# Altium footprint library PcbCorrect(25_12_2025).PcbLib: 27 footprints (part 1 of 2)
Each footprint in its own frame and in the unit in brackets; x right, y up, seen from the top. Pads: shape width x height; smd on the part's side, far side on the other; paste and mask are expansions set on the pad; w line width, h text height; cw(c..) or ccw(c..) is an arc to the next point about the centre after c.
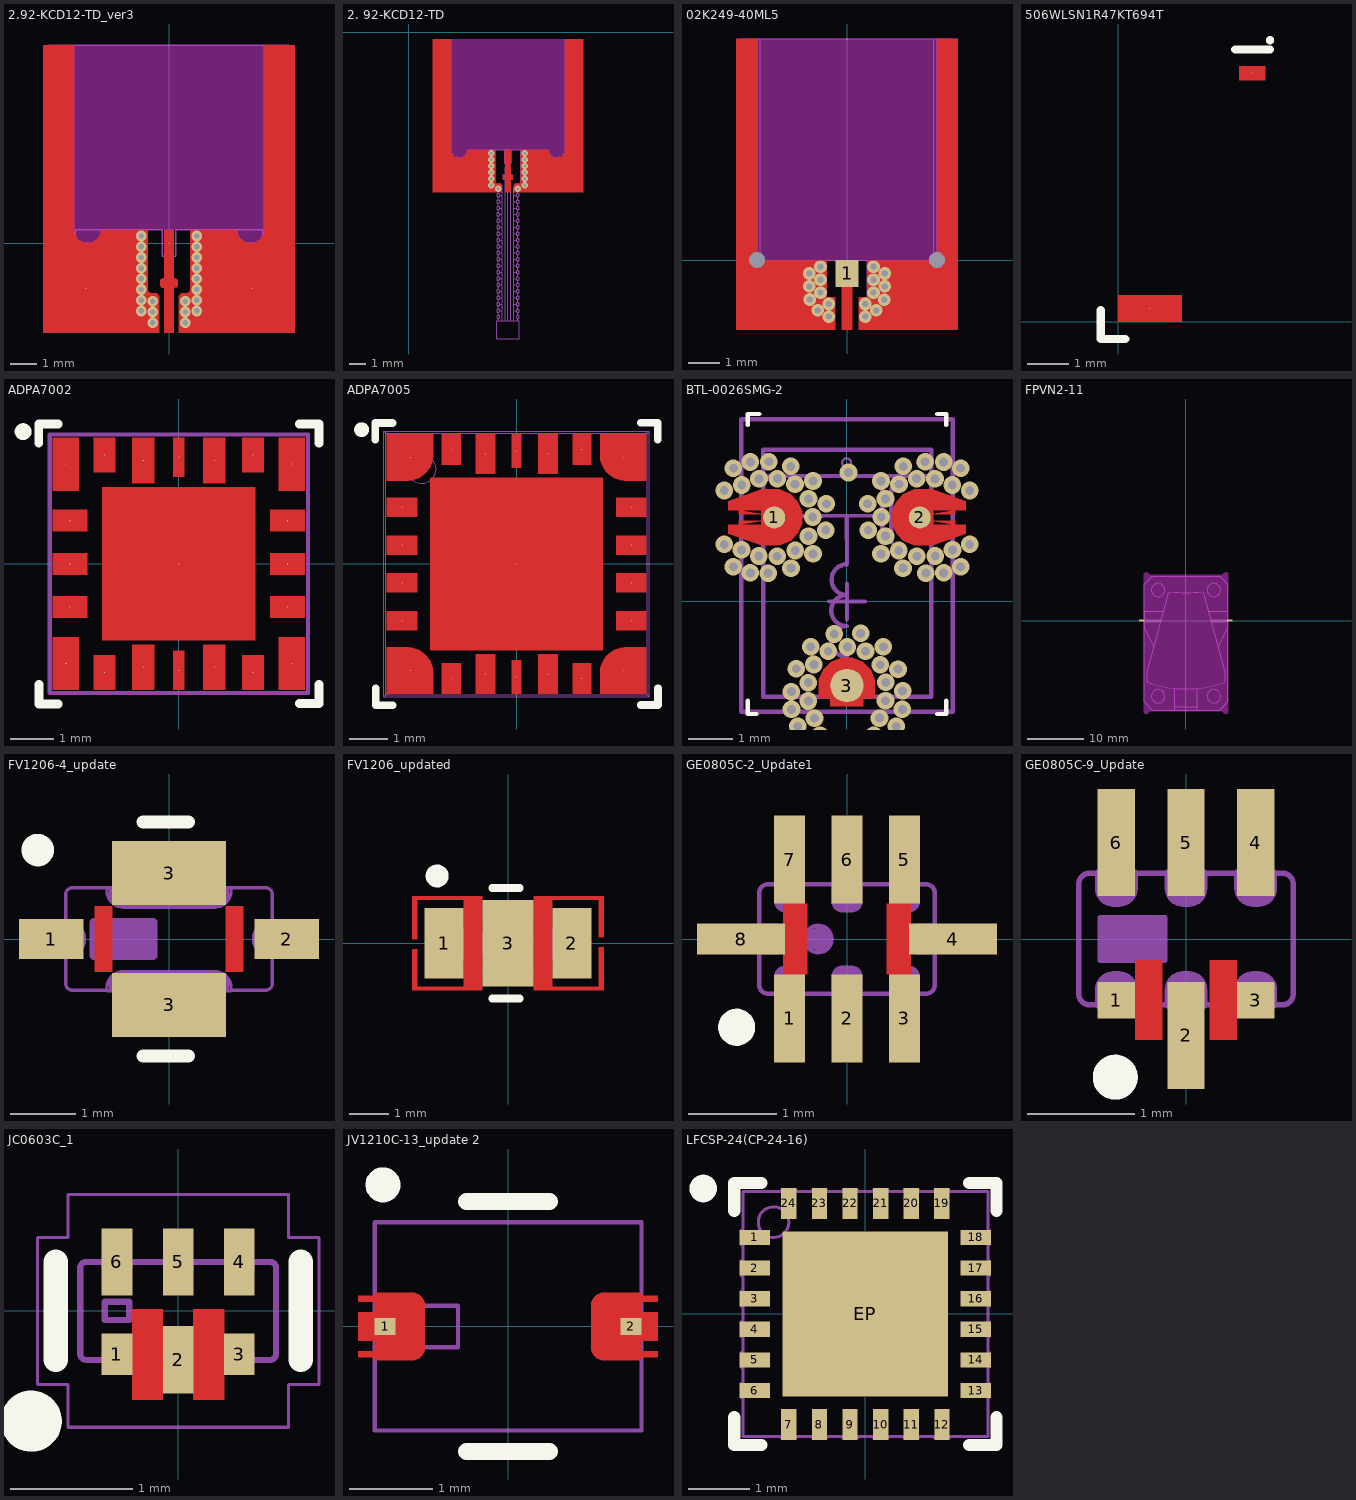
[diagram p0: the footprints below, top view; thin cyan lines are the x and y axes]

## 2.92-KCD12-TD_ver3 [mil]
pads (3):
  round 1 smd mask-196.85: 1(0,0) 2(-122.05,-66.93) 2(122.05,-66.93)
via -40.94,10.44 diameter 15.75 hole 7.87
via -40.94,-5.31 diameter 15.75 hole 7.87
via -40.94,-21.06 diameter 15.75 hole 7.87
via -40.94,-36.81 diameter 15.75 hole 7.87
via -40.94,-52.55 diameter 15.75 hole 7.87
via -40.94,-68.3 diameter 15.75 hole 7.87
via -40.94,-84.05 diameter 15.75 hole 7.87
via -40.94,-99.8 diameter 15.75 hole 7.87
via -24.02,-85.62 diameter 15.75 hole 7.87
via -24.02,-101.37 diameter 15.75 hole 7.87
via -24.02,-117.12 diameter 15.75 hole 7.87
via 24.02,-117.12 diameter 15.75 hole 7.87
via 24.02,-101.37 diameter 15.75 hole 7.87
via 24.02,-85.62 diameter 15.75 hole 7.87
via 40.94,-99.8 diameter 15.75 hole 7.87
via 40.94,-84.05 diameter 15.75 hole 7.87
via 40.94,-68.3 diameter 15.75 hole 7.87
via 40.95,-52.55 diameter 15.75 hole 7.87
via 40.94,-36.81 diameter 15.75 hole 7.87
via 40.94,-21.06 diameter 15.75 hole 7.87
via 40.94,-5.31 diameter 15.75 hole 7.87
via 40.94,10.44 diameter 15.75 hole 7.87
Top Layer:
  region: -6.69,-65.94 -8.74,-65.94 -9.5,-65.95 -10.9,-65.36 -11.98,-64.29 -12.56,-62.89 -12.56,-62.13 -12.56,-55.59 -12.56,-54.83 -11.98,-53.43 -10.9,-52.35 -9.5,-51.77 -8.74,-51.77 -6.69,-51.77 -6.69,-19.89 6.69,-19.89 6.69,-51.77 8.74,-51.77 9.5,-51.77 10.9,-52.35 11.98,-53.43 12.56,-54.83 12.56,-55.59 12.56,-62.13 12.56,-62.89 11.98,-64.29 10.9,-65.36 9.5,-65.94 8.74,-65.94 6.69,-65.94 6.69,-132.09 -6.69,-132.09
  region: -6.69,-19.89 6.69,-19.89 6.69,19.89 -6.69,19.89
  region: -185.04,-132.09 -185.04,291.54 -139.76,291.54 -139.76,19.89 -139.67,17.96 -138.92,14.18 -137.44,10.61 -135.3,7.4 -132.57,4.67 -129.36,2.53 -125.8,1.05 -122.01,0.3 -118.15,0.3 -114.37,1.05 -110.8,2.53 -107.6,4.67 -104.87,7.4 -102.72,10.61 -101.25,14.17 -100.49,17.96 -100.4,19.89 -100.39,19.89 -31.5,19.89 -31.5,-67.12 -31.46,-67.78 -31.21,-69.06 -30.71,-70.27 -29.98,-71.37 -29.05,-72.29 -27.96,-73.02 -26.75,-73.52 -25.46,-73.78 -24.8,-73.81 -19.68,-73.81 -19.18,-73.81 -18.19,-74.01 -17.26,-74.4 -16.42,-74.96 -15.71,-75.67 -15.15,-76.51 -14.77,-77.44 -14.57,-78.43 -14.57,-78.93 -14.57,-132.09
  region: 185.04,-132.09 185.04,291.54 139.76,291.54 139.76,19.89 139.67,17.96 138.92,14.18 137.44,10.61 135.3,7.4 132.57,4.67 129.36,2.53 125.8,1.05 122.01,0.3 118.15,0.3 114.37,1.05 110.8,2.53 107.6,4.67 104.87,7.4 102.72,10.61 101.25,14.17 100.49,17.96 100.4,19.89 100.39,19.89 31.5,19.89 31.5,-67.12 31.46,-67.78 31.21,-69.06 30.71,-70.27 29.98,-71.37 29.05,-72.29 27.96,-73.02 26.75,-73.52 25.46,-73.78 24.8,-73.81 19.68,-73.81 19.18,-73.81 18.19,-74.01 17.26,-74.4 16.42,-74.96 15.71,-75.67 15.15,-76.51 14.77,-77.44 14.57,-78.43 14.57,-78.93 14.57,-132.09
Top Solder:
  pour cut-out: 26.38,-27.37 26.38,-35.24 -26.77,-35.24 -26.77,-27.37
  pour cut-out: 209.05,-90.76 105.91,-90.76 105.91,19.87 94.09,19.87 94.09,-102.57 220.87,-102.57 220.87,291.53 209.05,291.53
  pour cut-out: -209.05,-90.76 -105.91,-90.76 -105.91,19.87 -94.09,19.87 -94.09,-102.57 -220.87,-102.57 -220.87,291.53 -209.05,291.53
Bottom Solder:
  pour cut-out: -177.56,291.54 -165.75,291.54 -165.75,-15.75 0,-15.75 0,-27.56 -177.56,-27.56 -177.56,-4.14
  pour cut-out: 177.56,291.54 165.75,291.54 165.75,-15.75 0,-15.75 0,-27.56 177.56,-27.56 177.56,-4.14
Keep-Out Layer:
  board cut-out: -139.76,19.89 -139.76,15.97 -136.77,8.74 -131.23,3.2 -123.99,0.2 -116.16,0.2 -108.93,3.2 -103.39,8.74 -100.39,15.97 -100.39,19.89 100.39,19.89 100.39,15.97 103.39,8.74 108.93,3.2 116.16,0.2 123.99,0.21 131.23,3.2 136.77,8.74 139.76,15.97 139.76,19.89 139.76,291.54 -139.76,291.54
Top Assembly:
  lines w1.97: -177.17,-58.85 -137.8,-58.85 -137.8,19.89 -9.84,19.89 -9.84,-19.48 9.84,-19.48 9.84,19.89 137.8,19.89 137.8,-58.85 177.17,-58.85 177.17,291.54 -177.17,291.54 -177.17,-58.85
3D body "Соединитель 2.92-KCD12-TD.STEP": height 153.54, standoff -122.05, extent -177.15,-58.85 177.17,527.76

## 2. 92-KCD12-TD [mm]
pads (1):
  round 0.025 smd: 1(6.2,-7.75)
via 7.24,-9.55 diameter 0.4 hole 0.2
via 7.24,-9.15 diameter 0.4 hole 0.2
via 7.24,-8.75 diameter 0.4 hole 0.2
via 7.24,-8.35 diameter 0.4 hole 0.2
via 7.24,-7.95 diameter 0.4 hole 0.2
via 7.24,-7.55 diameter 0.4 hole 0.2
via 5.59,-9.775 diameter 0.4 hole 0.2
via 6.81,-9.775 diameter 0.4 hole 0.2
via 5.16,-9.55 diameter 0.4 hole 0.2
via 5.16,-9.15 diameter 0.4 hole 0.2
via 5.16,-8.75 diameter 0.4 hole 0.2
via 5.16,-8.35 diameter 0.4 hole 0.2
via 5.16,-7.95 diameter 0.4 hole 0.2
via 5.16,-7.55 diameter 0.4 hole 0.2
Top Layer:
  region: 1.5,-10 1.5,-0.425 2.65,-0.425 2.65,-7.325 2.651,-7.353 2.657,-7.409 2.67,-7.463 2.688,-7.516 2.712,-7.567 2.742,-7.614 2.777,-7.658 2.817,-7.698 2.861,-7.733 2.908,-7.763 2.959,-7.787 3.012,-7.805 3.066,-7.818 3.122,-7.824 3.178,-7.824 3.234,-7.818 3.288,-7.805 3.341,-7.787 3.392,-7.763 3.439,-7.733 3.483,-7.698 3.523,-7.658 3.558,-7.614 3.588,-7.567 3.612,-7.516 3.63,-7.463 3.643,-7.409 3.649,-7.353 3.65,-7.325 5.4,-7.325 5.4,-9.445 5.635,-9.445 5.654,-9.445 5.69,-9.452 5.725,-9.467 5.756,-9.487 5.783,-9.514 5.803,-9.545 5.818,-9.58 5.825,-9.616 5.825,-9.635 5.825,-10
  region: 10.9,-10 10.9,-0.425 9.75,-0.425 9.75,-7.325 9.749,-7.353 9.743,-7.409 9.73,-7.463 9.712,-7.516 9.688,-7.567 9.658,-7.614 9.623,-7.658 9.583,-7.698 9.539,-7.733 9.492,-7.763 9.441,-7.787 9.388,-7.805 9.334,-7.818 9.278,-7.824 9.222,-7.824 9.166,-7.818 9.112,-7.805 9.059,-7.787 9.008,-7.763 8.961,-7.733 8.917,-7.698 8.877,-7.658 8.842,-7.614 8.812,-7.567 8.788,-7.516 8.77,-7.463 8.757,-7.409 8.751,-7.353 8.75,-7.325 7,-7.325 7,-9.445 6.765,-9.445 6.746,-9.445 6.71,-9.452 6.675,-9.467 6.644,-9.487 6.617,-9.514 6.597,-9.545 6.582,-9.58 6.575,-9.616 6.575,-9.635 6.575,-10
  region: 6.335,-8.43 6.335,-8.102 6.065,-8.102 6.065,-8.43 6.035,-8.43 6.035,-8.89 5.895,-8.89 5.895,-9.163 6.03,-9.163 6.03,-10 6.37,-10 6.37,-9.163 6.505,-9.163 6.505,-8.89 6.365,-8.89 6.365,-8.43
  region: 6.4,-8.175 6.4,-7.325 6,-7.325 6,-8.175
Top Solder:
  region: 5.8,-8.675 5.8,-8.475 6.6,-8.475 6.6,-8.675
  region: 1.2,-9.825 1.2,-0.425 1.5,-0.425 1.5,-9.525 10.9,-9.525 10.9,-0.425 11.2,-0.425 11.2,-9.825
Keep-Out Layer:
  board cut-out: 2.65,-7.325 2.65,-7.424 2.726,-7.608 2.867,-7.749 3.051,-7.825 3.249,-7.825 3.433,-7.749 3.574,-7.608 3.65,-7.424 3.65,-7.325 8.75,-7.325 8.75,-7.424 8.826,-7.608 8.967,-7.749 9.151,-7.825 9.349,-7.825 9.533,-7.749 9.674,-7.608 9.75,-7.424 9.75,-7.325 9.75,-0.425 2.65,-0.425
Mechanical 6:
  drawing of 608 lines, arcs and shapes, not listed
3D body "Соединитель 2.92-KCD12-TD.STEP": height 3.9, standoff -3.1, extent 1.7,-9.325 10.7,5.575

## 02K249-40ML5 [mm]
pads (3):
  rect 0.73x0.85 smd paste-5 mask-5: 1(0,-0.425)
  round 0 hole 0.5 paste-2539.97 mask+0.102: 2(-2.85,0) 2(2.85,0)
via -1.18,-1.25 diameter 0.4 hole 0.2
via 1.18,-1.26 diameter 0.4 hole 0.2
via 0.93,-1.595 diameter 0.4 hole 0.2
via 1.2,-0.835 diameter 0.4 hole 0.2
via 1.2,-0.425 diameter 0.4 hole 0.2
via -0.93,-1.595 diameter 0.4 hole 0.2
via -1.2,-0.835 diameter 0.4 hole 0.2
via -1.2,-0.425 diameter 0.4 hole 0.2
via 0.84,-1.03 diameter 0.4 hole 0.2
via 0.58,-1.39 diameter 0.4 hole 0.2
via 0.84,-0.62 diameter 0.4 hole 0.2
via 0.58,-1.79 diameter 0.4 hole 0.2
via 0.84,-0.21 diameter 0.4 hole 0.2
via -0.84,-1.03 diameter 0.4 hole 0.2
via -0.58,-1.39 diameter 0.4 hole 0.2
via -0.84,-0.62 diameter 0.4 hole 0.2
via -0.58,-1.79 diameter 0.4 hole 0.2
via -0.84,-0.21 diameter 0.4 hole 0.2
Top Layer:
  region: 0,-1.34 0.17,-1.34 0.17,-2.2 0,-2.2
  region: 0,-1.34 -0.17,-1.34 -0.17,-2.2 0,-2.2
  region: -0.37,-1.175 -3.5,-1.175 -3.5,-2.2 -0.37,-2.2
  region: -0.64,-1.175 -0.64,0 -2.85,0 -2.85,7 -3.5,7 -3.5,-1.175
  region: 0,0 0.17,0 0.17,-1.34 0,-1.34
  region: 0,0 -0.17,0 -0.17,-1.34 0,-1.34
  region: 0.64,-1.175 0.64,0 2.85,0 2.85,7 3.5,7 3.5,-1.175
  region: 0.37,-1.175 3.5,-1.175 3.5,-2.2 0.37,-2.2
Bottom Layer:
  region: 0.64,-1.175 0.64,0 2.85,0 2.85,7 3.5,7 3.5,-1.175
  region: -0.64,-1.175 -0.64,0 -2.85,0 -2.85,7 -3.5,7 -3.5,-1.175
Top Solder:
  region: -0.4,-1 0.4,-1 0.5,-1 0.5,-1.2 -0.5,-1.2 -0.5,-1
  region: -3.8,7 -3.8,-2.5 3.8,-2.5 3.8,7 3.5,7 3.5,-2.2 -3.5,-2.2 -3.5,7
Keep-Out Layer:
  board cut-out: -2.85,7 -2.85,0 2.85,0 2.85,7
Top Assembly:
  lines w0.03: -0.25,0 -0.25,-0.8 0,-0.8 0.25,-0.8 0.25,0 ; -3.3,0 -3.3,7 -2.75,7 ; -3.3,0 -0.64,0 -0.64,-2 -3.3,-2 -3.3,0 ; -2.75,7 2.75,7 ; -2.75,7 -2.75,0 -0.2,0 0,0 0.2,0 2.75,0 2.75,7 ; 2.75,7 3.3,7 3.3,0 ; 3.3,0 0.64,0 0.64,-2 3.3,-2 3.3,0

## 506WLSN1R47KT694T [mil] "High Frequency Ultra-Broadband Inductor"
pads (2):
  round 1 smd mask+1.97: 1(128.48,238.01)
  round 1 smd mask+3.94: 2(30.49,12.5)
Top Layer:
  region: 0,0 60.98,0 60.98,25 0,25
  region: 115.98,231.32 140.98,231.32 140.98,244.7 115.98,244.7
Top Overlay:
  circle w5.51: c145.67,269.69 r1.18
  lines w7.87: -16.73,10.83 -16.73,-16.73 6.89,-16.73 ; 112.2,260.83 145.67,260.83
3D body "Катушка ATC506WLSN1R47KT694T.STEP": height 118.11, standoff -1.29, extent 0,0 129.92,247.24

## ADPA7002 [mil]
pads (21):
  round 1 smd: 1(-99.41,39.37) 2(-99.41,0) 3(-99.41,-39.37) 4(-67.91,-99.41) 5(-32.48,-94.49) 6(0,-97.44) 7(32.48,-94.49) 8(67.91,-99.41) 9(99.41,-39.37) 10(99.41,0) 11(99.41,39.37) 12(67.91,99.41) 13(32.48,94.49) 14(0,97.44) 15(-32.48,94.49) 16(-67.91,99.41) EP(-103.35,-91.04) EP(-103.35,91.04) EP(0,0) EP(103.35,-91.04) EP(103.35,91.04)
Top Layer:
  region: -91.54,115.16 -91.54,66.93 -115.16,66.93 -115.16,115.16
  region: -91.54,-115.16 -91.54,-66.93 -115.16,-66.93 -115.16,-115.16
  region: 91.54,115.16 91.54,66.93 115.16,66.93 115.16,115.16
  region: 91.54,-115.16 91.54,-66.93 115.16,-66.93 115.16,-115.16
  region: -58.07,-115.16 -77.76,-115.16 -77.76,-83.66 -58.07,-83.66
  region: 58.07,-115.16 77.76,-115.16 77.76,-83.66 58.07,-83.66
  region: -4.92,-115.16 4.92,-115.16 4.92,-79.72 -4.92,-79.72
  region: 58.07,115.16 77.76,115.16 77.76,83.66 58.07,83.66
  region: -58.07,115.16 -77.76,115.16 -77.76,83.66 -58.07,83.66
  region: 115.16,49.21 115.16,29.53 83.66,29.53 83.66,49.21
  region: 115.16,9.84 115.16,-9.84 83.66,-9.84 83.66,9.84
  region: 115.16,-29.53 115.16,-49.21 83.66,-49.21 83.66,-29.53
  region: -115.16,-49.21 -115.16,-29.53 -83.66,-29.53 -83.66,-49.21
  region: -115.16,-9.84 -115.16,9.84 -83.66,9.84 -83.66,-9.84
  region: -115.16,29.53 -115.16,49.21 -83.66,49.21 -83.66,29.53
  region: -69.88,-69.88 -69.88,69.88 69.88,69.88 69.88,-69.88
  region: 4.92,115.16 -4.92,115.16 -4.92,79.72 4.92,79.72
  region: -42.52,-115.16 -42.52,-73.82 -22.44,-73.82 -22.44,-115.16
  region: 42.52,-115.16 42.52,-73.82 22.44,-73.82 22.44,-115.16
  region: 42.52,115.16 42.52,73.82 22.44,73.82 22.44,115.16
  region: -42.52,115.16 -42.52,73.82 -22.44,73.82 -22.44,115.16
Top Overlay:
  circle w7.87: c-142.35,120.8 r3.74
  lines w7.87: -128.15,110.23 -128.15,127.76 -110.23,127.76 ; -127.76,-110.23 -127.76,-128.15 -110.23,-128.15 ; 110.23,-127.76 128.15,-127.76 128.15,-110.23 ; 110.23,127.76 128.15,127.76 128.15,110.23
Top Assembly:
  lines w3.94: -118.11,-118.11 -118.11,118.11 118.11,118.11 118.11,-118.11 -118.11,-118.11

## ADPA7005 [mil]
pads (23):
  round 1 smd: 1(-119.09,59.06) 2(-119.09,19.69) 3(-119.09,-19.68) 4(-119.09,-59.06) 5(-67.91,-119.09) 6(-32.48,-114.17) 7(0,-117.32) 8(32.48,-114.17) 9(67.91,-119.09) 10(119.09,-59.06) 11(119.09,-19.68) 12(119.09,19.69) 13(119.09,59.06) 14(67.91,119.09) 15(32.48,114.17) 16(0,117.32) 17(-32.48,114.17) 18(-67.91,119.09) EP(-110.73,-110.73) EP(-110.73,110.73) EP(0,0) EP(110.73,-110.73) EP(110.73,110.73)
Top Layer:
  region: 58.07,134.84 77.76,134.84 77.76,103.35 58.07,103.35
  region: 4.92,134.84 -4.92,134.84 -4.92,99.8 4.92,99.8
  region: -134.84,49.21 -134.84,68.9 -103.35,68.9 -103.35,49.21
  region: -134.84,9.84 -134.84,29.53 -103.35,29.53 -103.35,9.84
  region: -134.84,-29.53 -134.84,-9.84 -103.35,-9.84 -103.35,-29.53
  region: -134.84,-68.9 -134.84,-49.21 -103.35,-49.21 -103.35,-68.9
  region: 134.84,49.21 134.84,68.9 103.35,68.9 103.35,49.21
  region: 134.84,9.84 134.84,29.53 103.35,29.53 103.35,9.84
  region: 134.84,-29.53 134.84,-9.84 103.35,-9.84 103.35,-29.53
  region: 134.84,-68.9 134.84,-49.21 103.35,-49.21 103.35,-68.9
  region: -58.07,134.84 -77.76,134.84 -77.76,103.35 -58.07,103.35
  region: -4.92,-134.84 4.92,-134.84 4.92,-99.8 -4.92,-99.8
  region: 58.07,-134.84 77.76,-134.84 77.76,-103.35 58.07,-103.35
  region: -58.07,-134.84 -77.76,-134.84 -77.76,-103.35 -58.07,-103.35
  region: -89.57,-89.57 89.57,-89.57 89.57,89.57 -89.57,89.57
  region: 86.61,-134.84 86.61,-113.5 86.61,-111.74 87.07,-108.24 87.99,-104.84 89.33,-101.58 91.1,-98.53 93.24,-95.73 95.73,-93.24 98.53,-91.1 101.58,-89.34 104.84,-87.99 108.24,-87.07 111.74,-86.61 113.5,-86.61 134.84,-86.61 134.84,-134.84
  region: 134.84,86.61 113.5,86.61 111.74,86.61 108.24,87.07 104.84,87.99 101.58,89.33 98.53,91.1 95.73,93.24 93.24,95.73 91.1,98.53 89.34,101.58 87.99,104.84 87.07,108.24 86.61,111.74 86.61,113.5 86.61,134.84 134.84,134.84
  region: -86.61,134.84 -86.61,113.5 -86.61,111.74 -87.07,108.24 -87.99,104.84 -89.33,101.58 -91.1,98.53 -93.24,95.73 -95.73,93.24 -98.53,91.1 -101.58,89.34 -104.84,87.99 -108.24,87.07 -111.73,86.61 -113.5,86.61 -134.84,86.61 -134.84,134.84
  region: -134.84,-86.61 -113.5,-86.61 -111.74,-86.61 -108.24,-87.07 -104.84,-87.99 -101.58,-89.33 -98.53,-91.1 -95.73,-93.24 -93.24,-95.73 -91.1,-98.53 -89.34,-101.58 -87.99,-104.84 -87.07,-108.24 -86.61,-111.73 -86.61,-113.5 -86.61,-134.84 -134.84,-134.84
  region: -42.52,-134.84 -22.44,-134.84 -22.44,-93.5 -42.52,-93.5
  region: 42.52,-134.84 22.44,-134.84 22.44,-93.5 42.52,-93.5
  region: 42.52,134.84 22.44,134.84 22.44,93.5 42.52,93.5
  region: -42.52,134.84 -22.44,134.84 -22.44,93.5 -42.52,93.5
Top Overlay:
  circle w7.87: c-161.05,139.5 r3.74
  lines w7.87: -146.85,128.93 -146.85,146.46 -128.93,146.46 ; -146.46,-128.93 -146.46,-146.85 -128.93,-146.85 ; 128.93,-146.46 146.85,-146.46 146.85,-128.93 ; 128.93,146.85 146.46,146.85 146.46,128.93
Top Assembly:
  circle w0.5: c-98.43,98.43 r14.76
  lines w0.5: -135.83,-133.86 ccw(c-133.86,-133.86) -133.86,-135.83 ; -135.83,133.86 cw(c-133.86,133.86) -133.86,135.83 ; 133.86,-135.83 ccw(c133.86,-133.86) 135.83,-133.86 ; 133.86,135.83 cw(c133.86,133.86) 135.83,133.86 ; -137.8,-137.8 137.8,-137.8 ; -137.8,-137.8 -135.83,-135.83 ; -137.8,-137.8 -137.8,137.8 ; -137.8,137.8 137.8,137.8 ; -137.8,137.8 -135.83,135.83 ; -135.83,-135.83 135.83,-135.83 ; -135.83,-135.83 -135.83,135.83 ; -135.83,135.83 135.83,135.83 ; 135.83,-135.83 137.8,-137.8 ; 135.83,-135.83 135.83,135.83 ; 135.83,135.83 137.8,137.8 ; 137.8,-137.8 137.8,137.8
3D body "LCC_HS(EH-18-1).x_t": height 51.85, standoff -0.79, extent -137.8,-137.8 137.8,137.8

## BTL-0026SMG-2 [mm]
height 1.77
pads (3):
  rrect100% 0.5x0.5 smd paste+0 mask+0.102: 1(-1.65,1.905) 2(1.65,1.905)
  rrect100% 0.76x0.76 smd paste-0.03 mask+0.102: 3(0,-1.905)
via -1.148,-1.524 diameter 0.4 hole 0.2
via 1.157,-1.532 diameter 0.4 hole 0.2
via 0.825,-1.026 diameter 0.4 hole 0.2
via 0.754,-1.435 diameter 0.4 hole 0.2
via 0.421,-1.129 diameter 0.4 hole 0.2
via 0.309,-0.722 diameter 0.4 hole 0.2
via -0.288,-0.736 diameter 0.4 hole 0.2
via -0.423,-1.128 diameter 0.4 hole 0.2
via -0.75,-1.427 diameter 0.4 hole 0.2
via -0.825,-1.026 diameter 0.4 hole 0.2
via 1.261,-2.026 diameter 0.4 hole 0.2
via 1.256,-2.446 diameter 0.4 hole 0.2
via 0.874,-2.251 diameter 0.4 hole 0.2
via 1.117,-2.831 diameter 0.4 hole 0.2
via 0.736,-2.643 diameter 0.4 hole 0.2
via -0.61,-3.036 diameter 0.4 hole 0.2
via -0.874,-2.256 diameter 0.4 hole 0.2
via -0.879,-1.839 diameter 0.4 hole 0.2
via -1.256,-2.446 diameter 0.4 hole 0.2
via -1.261,-2.043 diameter 0.4 hole 0.2
via 0.01,-1.031 diameter 0.4 hole 0.2
via -0.735,-2.646 diameter 0.4 hole 0.2
via -1.117,-2.831 diameter 0.4 hole 0.2
via 0.61,-3.036 diameter 0.4 hole 0.2
via 0.88,-1.834 diameter 0.4 hole 0.2
via 1.269,0.757 diameter 0.4 hole 0.2
via 1.277,3.062 diameter 0.4 hole 0.2
via 0.771,2.73 diameter 0.4 hole 0.2
via 1.18,2.659 diameter 0.4 hole 0.2
via 0.874,2.326 diameter 0.4 hole 0.2
via 0.467,2.214 diameter 0.4 hole 0.2
via 0.481,1.617 diameter 0.4 hole 0.2
via 0.873,1.482 diameter 0.4 hole 0.2
via 1.172,1.155 diameter 0.4 hole 0.2
via 0.771,1.08 diameter 0.4 hole 0.2
via 1.771,3.166 diameter 0.4 hole 0.2
via 2.191,3.161 diameter 0.4 hole 0.2
via 1.996,2.779 diameter 0.4 hole 0.2
via 2.576,3.022 diameter 0.4 hole 0.2
via 2.388,2.641 diameter 0.4 hole 0.2
via 2.781,1.295 diameter 0.4 hole 0.2
via 2.001,1.031 diameter 0.4 hole 0.2
via 1.584,1.026 diameter 0.4 hole 0.2
via 2.191,0.649 diameter 0.4 hole 0.2
via 1.788,0.644 diameter 0.4 hole 0.2
via 0.776,1.915 diameter 0.4 hole 0.2
via 2.391,1.17 diameter 0.4 hole 0.2
via 2.576,0.788 diameter 0.4 hole 0.2
via 2.781,2.515 diameter 0.4 hole 0.2
via 1.579,2.785 diameter 0.4 hole 0.2
via -1.268,0.757 diameter 0.4 hole 0.2
via -1.276,3.062 diameter 0.4 hole 0.2
via -0.77,2.73 diameter 0.4 hole 0.2
via -1.179,2.659 diameter 0.4 hole 0.2
via -0.873,2.326 diameter 0.4 hole 0.2
via -0.466,2.214 diameter 0.4 hole 0.2
via -0.48,1.617 diameter 0.4 hole 0.2
via -0.872,1.482 diameter 0.4 hole 0.2
via -1.171,1.155 diameter 0.4 hole 0.2
via -0.77,1.08 diameter 0.4 hole 0.2
via -1.77,3.166 diameter 0.4 hole 0.2
via -2.19,3.161 diameter 0.4 hole 0.2
via -1.995,2.779 diameter 0.4 hole 0.2
via -2.575,3.022 diameter 0.4 hole 0.2
via -2.387,2.641 diameter 0.4 hole 0.2
via -2.78,1.295 diameter 0.4 hole 0.2
via -2,1.031 diameter 0.4 hole 0.2
via -1.583,1.026 diameter 0.4 hole 0.2
via -2.19,0.649 diameter 0.4 hole 0.2
via -1.787,0.644 diameter 0.4 hole 0.2
via -0.775,1.915 diameter 0.4 hole 0.2
via -2.39,1.17 diameter 0.4 hole 0.2
via -2.575,0.788 diameter 0.4 hole 0.2
via -2.78,2.515 diameter 0.4 hole 0.2
via -1.578,2.785 diameter 0.4 hole 0.2
via 0.036,2.923 diameter 0.4 hole 0.2
Top Layer:
  rectangle: -0.38,-2.385 0.38,-1.925
  pour cut-out: 0,-1.275 -0.126,-1.274 -0.359,-1.369 -0.538,-1.546 -0.635,-1.779 -0.635,-1.905 -0.635,-2.196 0.635,-2.196 0.635,-1.905 0.635,-1.779 0.538,-1.546 0.359,-1.369 0.126,-1.274
  region: -1.888,1.978 -2.448,1.978 -2.448,2.073 -2.434,2.073
  region: -1.888,1.832 -2.448,1.832 -2.448,1.737 -2.434,1.737
  pour cut-out: -1.019,1.905 -1.018,1.779 -1.113,1.546 -1.29,1.367 -1.523,1.27 -1.649,1.27 -1.94,1.27 -1.94,2.54 -1.649,2.54 -1.523,2.54 -1.29,2.443 -1.113,2.264 -1.018,2.031
  pour cut-out: -2.689,1.534 -2.689,1.736 -1.94,1.736 -1.94,1.27
  pour cut-out: -2.689,2.276 -2.689,2.074 -1.94,2.074 -1.94,2.54
  region: 1.889,1.978 2.449,1.978 2.449,2.073 2.435,2.073
  region: 1.889,1.832 2.449,1.832 2.449,1.737 2.435,1.737
  pour cut-out: 1.02,1.905 1.019,1.779 1.114,1.546 1.291,1.367 1.524,1.27 1.65,1.27 1.941,1.27 1.941,2.54 1.65,2.54 1.524,2.54 1.291,2.443 1.114,2.264 1.019,2.031
  pour cut-out: 2.69,1.534 2.69,1.736 1.941,1.736 1.941,1.27
  pour cut-out: 2.69,2.276 2.69,2.074 1.941,2.074 1.941,2.54
  region: 0.38,-1.905 -0.38,-1.905 -0.38,-2.196 0.38,-2.196
  region: 0.38,-1.908 0.38,-1.883 0.374,-1.834 0.361,-1.785 0.342,-1.739 0.317,-1.696 0.286,-1.656 0.251,-1.62 0.211,-1.59 0.168,-1.565 0.122,-1.546 0.074,-1.533 0.024,-1.526 -0.001,-1.526 -0.026,-1.526 -0.075,-1.532 -0.123,-1.545 -0.169,-1.564 -0.212,-1.589 -0.252,-1.62 -0.287,-1.655 -0.317,-1.694 -0.342,-1.738 -0.361,-1.784 -0.374,-1.832 -0.38,-1.881 -0.38,-1.906
  region: 1.65,2.285 1.65,1.525 1.941,1.525 1.941,2.285
  region: 1.653,2.285 1.628,2.285 1.579,2.279 1.53,2.266 1.484,2.247 1.441,2.222 1.401,2.191 1.365,2.156 1.335,2.116 1.31,2.073 1.291,2.027 1.278,1.979 1.271,1.929 1.271,1.904 1.271,1.879 1.278,1.83 1.29,1.782 1.309,1.736 1.334,1.693 1.365,1.653 1.4,1.618 1.44,1.588 1.483,1.563 1.529,1.544 1.577,1.531 1.626,1.525 1.651,1.525
  region: -1.649,2.285 -1.649,1.525 -1.94,1.525 -1.94,2.285
  region: -1.652,2.285 -1.627,2.285 -1.578,2.279 -1.529,2.266 -1.483,2.247 -1.44,2.222 -1.4,2.191 -1.364,2.156 -1.334,2.116 -1.309,2.073 -1.29,2.027 -1.277,1.979 -1.27,1.929 -1.27,1.904 -1.27,1.879 -1.277,1.83 -1.289,1.782 -1.308,1.736 -1.333,1.693 -1.364,1.653 -1.399,1.618 -1.439,1.588 -1.482,1.563 -1.528,1.544 -1.576,1.531 -1.625,1.525 -1.65,1.525
Top Overlay:
  lines w0.1: -2.25,-2.25 -2.25,-2.55 -2.05,-2.55 ; -2.25,4 -2.25,4.25 -1.985,4.25 ; 2.05,-2.55 2.25,-2.55 2.25,-2.25 ; 2.05,4.25 2.25,4.25 2.25,4
Top Paste:
  rectangle: -1.9,2.7 -1.1,3.4
  region: -0.75,1.6 -0.75,0.9 -0.1,0.9 -0.1,1.6
  region: 0.351,-2.37 0.351,-1.906 -0.351,-1.906 -0.351,-2.37
  rectangle: -1.9,0.1 -1.1,0.7
  rectangle: -0.9,0.1 -0.1,0.7
  rectangle: 0.1,0.1 0.9,0.7
  rectangle: 1.1,0.1 1.9,0.7
  rectangle: -1.9,-1.05 -1.1,-0.1
  rectangle: -0.9,-1.05 -0.1,-0.1
  rectangle: 0.1,-1.05 0.9,-0.1
  rectangle: 1.1,-1.05 1.9,-0.1
  rectangle: 1.1,-2.1 1.9,-1.3
  region: -1.1,-1.3 -1.9,-1.3 -1.9,-2.1 -1.1,-2.1
  region: 0.1,1.6 0.1,0.9 0.75,0.9 0.75,1.6
  region: -0.75,2.5 -0.75,1.8 -0.1,1.8 -0.1,2.5
  rectangle: -0.9,2.7 -0.1,3.4
  rectangle: 0.1,2.7 0.9,3.4
  rectangle: 1.1,2.7 1.9,3.4
  region: 0.1,2.5 0.1,1.8 0.75,1.8 0.75,2.5
  region: -1.9,2.21 -1.707,2.21 -1.687,2.21 -1.647,2.205 -1.608,2.194 -1.571,2.179 -1.536,2.159 -1.504,2.134 -1.476,2.106 -1.451,2.074 -1.431,2.039 -1.416,2.002 -1.405,1.963 -1.4,1.923 -1.4,1.903 -1.4,1.89 -1.4,1.871 -1.405,1.833 -1.415,1.797 -1.429,1.761 -1.448,1.729 -1.471,1.698 -1.498,1.671 -1.528,1.648 -1.561,1.629 -1.597,1.615 -1.633,1.605 -1.671,1.6 -1.69,1.6 -1.9,1.6
  region: 1.901,2.21 1.708,2.21 1.688,2.21 1.648,2.205 1.609,2.194 1.572,2.179 1.537,2.159 1.505,2.134 1.477,2.106 1.452,2.074 1.432,2.039 1.417,2.002 1.406,1.963 1.401,1.923 1.401,1.903 1.401,1.89 1.401,1.871 1.406,1.833 1.416,1.797 1.43,1.761 1.449,1.729 1.472,1.698 1.499,1.671 1.529,1.648 1.562,1.629 1.598,1.615 1.634,1.605 1.672,1.6 1.691,1.6 1.901,1.6
Top Solder:
  region: 2.1,3.6 2.1,-2.4 -2.1,-2.4 -2.1,3.6
Assembly:
  circle w0.05: c-0.008,3.145 r0.101
  circle w0.05: c-1.708,3.145 r0.101
  circle w0.05: c1.7,3.145 r0.101
  lines w0.1: -1.9,2.837 1.9,2.845 ; -1.87,1.935 0.8,1.949 ; -0.008,0.145 ccw(c-0.008,-0.205) -0.008,-0.555 ccw(c-0.008,-0.905) -0.008,-1.255 0.005,-2.155 ; -0.008,1.944 0,0.845 ccw(c0,0.495) 0,0.145 ; 0.8,1.345 0.8,2.545 ; 1,1.345 1,2.545 ; 1,1.945 1.91,1.945 ; -1.9,-2.155 1.91,-2.155 1.91,3.435 -1.9,3.435 -1.9,-2.155
  text ".Designator" at -3.2,4.6 h2
Top Courtyard (Mech15):
  lines w0.1: -0.004,-2.5 2.396,-2.5 2.396,4.13 -0.537,4.13 -2.4,4.13 -2.4,-2.5 0,-2.5 ; 0.4,0 0,0 ; 0,0 0,-0.4 0,0 ; 0,0 0,0.4 0,0 ; 0,0 -0.4,0 0,0

## FPVN2-11 [mm]
height 4.3
pads (2):
  rect 1x0.34 smd paste-2: 1(-7.862,0) 2(7.862,0)
Keep-Out Layer:
  board cut-out: -7.562,-16.2 -7.562,8.2 -7.562,8.299 -7.486,8.483 -7.346,8.624 -7.162,8.7 -6.963,8.7 -6.779,8.624 -6.639,8.483 -6.563,8.299 -6.563,8.2 6.638,8.2 6.638,8.299 6.714,8.483 6.854,8.624 7.038,8.7 7.237,8.7 7.421,8.624 7.561,8.483 7.637,8.299 7.637,8.2 7.638,-16.2 7.638,-16.299 7.561,-16.483 7.421,-16.624 7.237,-16.7 7.038,-16.7 6.854,-16.624 6.714,-16.483 6.638,-16.299 6.638,-16.2 -6.563,-16.2 -6.563,-16.299 -6.639,-16.483 -6.779,-16.624 -6.963,-16.7 -7.162,-16.7 -7.346,-16.624 -7.486,-16.483 -7.562,-16.299
Top Assembly:
  lines w0.05: -5.691,-4.783 -7.462,-1.305 ; -4.45,-0.205 -7.412,-0.205 -7.412,0.195 -4.341,0.195 ; -3.934,1.695 -7.462,1.695 -7.462,-1.305 ; -2.013,-16.005 -2.013,-12.117 ; -2.013,-15.428 2.088,-15.428 ; 2.088,-16.005 2.088,-12.117 ; 4.009,1.695 7.537,1.695 7.537,-1.305 ; 4.416,0.195 7.487,0.195 7.487,-0.205 4.525,-0.205 ; 5.766,-4.783 7.538,-1.305 ; -7.462,-1.305 -7.462,-1.305 ; 7.537,-1.305 7.538,-1.305 ; -7.462,-14.505 -7.462,6.495 -5.963,7.995 6.038,7.995 7.538,6.495 7.538,-14.505 6.038,-16.005 -5.963,-16.005 -7.462,-14.505 ; -6.962,-10.871 -6.805,-11.028 ccw(c0.038,7.995) 6.944,-11.005 7.038,-10.802 7.038,-9.471 3.116,4.989 2.713,5.22 cw(c0.038,20.995) -2.664,5.225 -3.048,4.964 -6.963,-9.471 -6.962,-10.871 ; -6.162,-13.505 cw(c-4.962,-13.505) -3.762,-13.505 cw(c-4.962,-13.505) -6.162,-13.505 ; -6.162,5.495 ccw(c-4.962,5.495) -3.762,5.495 ccw(c-4.962,5.495) -6.162,5.495 ; 3.838,-13.505 cw(c5.038,-13.505) 6.238,-13.505 cw(c5.038,-13.505) 3.838,-13.505 ; 3.838,5.495 ccw(c5.038,5.495) 6.238,5.495 ccw(c5.038,5.495) 3.838,5.495
3D body "FPVN2-11.x_t": height 4.25, standoff -2.55, extent -7.462,-16.005 7.538,7.995

## FV1206-4_update [mm] "Mini-Circuits FV1206-4 Case Style"
height 0.94
pads (4):
  rect 0.99x0.61 smd: 1(-1.815,0) 2(1.815,0)
  rect 1.75x0.99 smd: 3(0,-1.015) 3(0,1.015)
Top Layer:
  pour cut-out: -0.875,0.505 -0.875,-0.005 -1.14,-0.005 -1.14,0.505
  pour cut-out: -0.875,-0.505 -0.875,0.005 -1.14,0.005 -1.14,-0.505
  pour cut-out: 0.875,0.505 0.875,-0.005 1.14,-0.005 1.14,0.505
  pour cut-out: 0.875,-0.505 0.875,0.005 1.14,0.005 1.14,-0.505
Top Overlay:
  circle w0.3: c-2.02,1.37 r0.1
  lines w0.2: -0.4,-1.8 0.3,-1.8 ; -0.4,1.8 0.3,1.8
Top Assembly:
  drawing of 347 lines, arcs and shapes, not listed
  text ".Designator" at -2.704,1.129 h1.2
3D body "FV1206-4.x_t": height 0.94, standoff 0, extent -1.6,-0.8 1.6,0.8

## FV1206_updated [mm] "Mini-Circuits FV1206 Case Style"
height 0.94
pads (3):
  rect 1x1.8 smd mask+0.08: 1(-1.625,0) 2(1.625,0)
  rect 1.3x2.2 smd: 3(0,0)
Top Layer:
  pour cut-out: -2.43,1.2 -2.3,1.2 -2.3,0.1 -2.43,0.1
  pour cut-out: 2.43,-1.2 2.3,-1.2 2.3,-0.1 2.43,-0.1
  pour cut-out: 0.65,-1.1 2.43,-1.1 2.43,-1.2 0.65,-1.2
  pour cut-out: 2.43,1.2 2.3,1.2 2.3,0.15 2.43,0.15
  pour cut-out: 0.65,1.1 2.43,1.1 2.43,1.2 0.65,1.2
  pour cut-out: -2.43,-1.2 -2.3,-1.2 -2.3,-0.15 -2.43,-0.15
  pour cut-out: -0.65,-1.1 -2.43,-1.1 -2.43,-1.2 -0.65,-1.2
  pour cut-out: -0.65,1.1 -2.43,1.1 -2.43,1.2 -0.65,1.2
  pour cut-out: 1.125,1.1 0.65,1.1 0.65,-1.1 1.125,-1.1
  pour cut-out: -1.125,1.1 -0.65,1.1 -0.65,-1.1 -1.125,-1.1
Top Overlay:
  circle w0.3: c-1.8,1.71 r0.141
  lines w0.2: -0.4,-1.4 0.3,-1.4 ; -0.4,1.4 0.3,1.4
Top Assembly:
  lines w0.05: -1.55,-0.775 -1.55,0.775 ; -1.45,-0.8 -1.45,0.8 ; -1.4,-0.8 -1.4,0.8 ; -1.35,-0.775 -1.35,0.775 ; -1.348,-0.798 ccw(c-2.451,0) -1.349,0.798 ; -1.308,-0.799 -0.405,-0.799 ; -1.308,0.799 -0.405,0.799 ; -1.3,-0.7 -1.3,0.72 ; -1.25,-0.8 -1.5,-0.8 ; -1.25,-0.625 -1.25,0.622 ; -1.25,0.8 -1.5,0.8 ; -1.2,-0.525 -1.2,0.529 ; -1.15,-0.375 -1.15,0.391 ; -1.1,-0.132 -1.1,0.157 ; -0.84,-0.25 -0.84,0.25 ; -0.79,-0.25 -0.79,0.25 ; -0.74,-0.25 -0.74,0.25 ; -0.69,-0.25 -0.69,0.25 ; -0.64,-0.25 -0.64,0.25 ; -0.59,-0.25 -0.59,0.25 ; -0.54,-0.25 -0.54,0.25 ; -0.49,-0.25 -0.49,0.25 ; -0.44,-0.25 -0.44,0.25 ; -0.405,-0.8 0.405,-0.8 ; -0.405,0.8 0.405,0.8 ; -0.403,-0.747 cw(c0,-1.099) 0.403,-0.747 ; -0.403,0.747 ccw(c0,1.099) 0.403,0.747 ; -0.401,-0.8 -0.401,-0.749 ; -0.401,0.749 -0.401,0.8 ; -0.39,-0.25 -0.39,0.25 ; -0.35,-0.8 -0.35,-0.7 ; -0.35,0.7 -0.35,0.8 ; -0.34,-0.25 -0.34,0.25 ; -0.3,-0.8 -0.3,-0.66 ; -0.3,0.66 -0.3,0.8 ; -0.29,-0.25 -0.29,0.25 ; -0.25,-0.8 -0.25,-0.63 ; -0.25,0.63 -0.25,0.8 ; -0.24,-0.25 -0.24,0.25 ; -0.2,-0.8 -0.2,-0.61 ; -0.2,0.61 -0.2,0.8 ; -0.19,-0.25 -0.19,0.25 ; -0.15,-0.8 -0.15,-0.59 ; -0.15,0.59 -0.15,0.8 ; -0.14,-0.25 -0.14,0.25 ; -0.1,-0.8 -0.1,-0.58 ; -0.1,0.58 -0.1,0.8 ; -0.09,-0.25 -0.09,0.25 ; -0.05,-0.8 -0.05,-0.57 ; -0.05,0.57 -0.05,0.8 ; -0.04,-0.25 -0.04,0.25 ; 0,-0.8 0,-0.57 ; 0,0.57 0,0.8 ; 0.01,-0.25 0.01,0.25 ; 0.05,-0.8 0.05,-0.57 ; 0.05,0.57 0.05,0.8 ; 0.06,-0.25 0.06,0.25 ; 0.1,-0.8 0.1,-0.58 ; 0.1,0.58 0.1,0.8 ; 0.11,-0.25 0.11,0.25 ; 0.15,-0.8 0.15,-0.59 ; 0.15,0.59 0.15,0.8 ; 0.16,-0.25 0.16,0.25 ; 0.2,-0.8 0.2,-0.61 ; 0.2,0.61 0.2,0.8 ; 0.21,-0.25 0.21,0.25 ; 0.25,-0.8 0.25,-0.63 ; 0.25,0.63 0.25,0.8 ; 0.26,-0.25 0.26,0.25 ; 0.3,-0.8 0.3,-0.66 ; 0.3,0.66 0.3,0.8 ; 0.31,-0.25 0.31,0.25 ; 0.35,-0.8 0.35,-0.7 ; 0.35,0.7 0.35,0.8 ; 0.36,-0.25 0.36,0.25 ; 0.401,-0.8 0.401,-0.749 ; 0.401,0.749 0.401,0.8 ; 0.405,-0.799 1.308,-0.799 ; 0.405,0.799 1.308,0.799 ; 1.1,-0.132 1.1,0.157 ; 1.15,-0.375 1.15,0.391 ; 1.2,-0.525 1.2,0.529 ; 1.25,-0.8 1.5,-0.8 ; 1.25,-0.625 1.25,0.622 ; 1.25,0.8 1.5,0.8 ; 1.3,-0.7 1.3,0.72 ; 1.348,-0.798 cw(c2.451,0) 1.349,0.798 ; 1.35,-0.775 1.35,0.775 ; 1.4,-0.8 1.4,0.8 ; 1.45,-0.8 1.45,0.8 ; 1.55,-0.775 1.55,0.775 ; -1.5,-0.8 cw(c-1.5,-0.7) -1.6,-0.7 -1.6,0.7 cw(c-1.5,0.7) -1.5,0.8 ; -1.5,-0.8 -1.5,0.8 ; 1.5,-0.8 ccw(c1.5,-0.7) 1.6,-0.7 1.6,0.7 ccw(c1.5,0.7) 1.5,0.8 ; 1.5,-0.8 1.5,0.8 ; -0.89,-0.25 -0.89,0.25 0.41,0.25 0.41,-0.25 -0.89,-0.25
  text ".Designator" at -2.704,1.129 h1.2
3D body "FV1206.x_t": height 0.94, standoff 0, extent -1.6,-0.8 1.6,0.8

## GE0805C-2_Update1 [mm] "Mini-Circuits GE0805C-2 Case Style"
height 0.95
pads (8):
  rect 0.35x1 smd mask+0.06: 1(-0.65,-0.9) 2(0,-0.9) 3(0.65,-0.9) 5(0.65,0.9) 6(0,0.9) 7(-0.65,0.9)
  rect 1x0.35 smd mask+0.06: 4(1.2,0) 8(-1.2,0)
Top Layer:
  pour cut-out: -0.725,0.4 -0.45,0.4 -0.45,-0.4 -0.725,-0.4
  pour cut-out: 0.725,0.4 0.45,0.4 0.45,-0.4 0.725,-0.4
Top Overlay:
  circle w0.22: c-1.25,-1 r0.1
Top Assembly:
  circle w0.05: c-0.325,0 r0.1
  circle w0.05: c-0.325,0 r0.05
  circle w0.05: c-0.325,0 r0.15
  circle w0.05: c-0.325,0 r0.01
  lines w0.05: -0.995,-0.15 -0.995,-0.52 ccw(c-0.895,-0.52) -0.895,-0.62 -0.8,-0.62 ; -0.995,0.15 -0.995,0.52 cw(c-0.895,0.52) -0.895,0.62 -0.8,0.62 ; -0.95,-0.15 -0.95,0.15 ; -0.9,-0.15 -0.9,0.15 ; -0.85,-0.15 -0.85,0.15 ; -0.8,-0.575 -0.5,-0.575 ; -0.8,-0.525 -0.5,-0.525 ; -0.8,-0.475 -0.5,-0.475 ; -0.8,0.475 -0.5,0.475 ; -0.8,0.525 -0.5,0.525 ; -0.8,0.575 -0.5,0.575 ; -0.775,-0.375 -0.525,-0.375 ; -0.775,0.375 -0.525,0.375 ; -0.75,-0.1 -0.75,0.1 ; -0.5,-0.62 -0.15,-0.62 ; -0.5,0.62 -0.15,0.62 ; -0.15,-0.575 0.15,-0.575 ; -0.15,-0.525 0.15,-0.525 ; -0.15,-0.475 0.15,-0.475 ; -0.15,0.475 0.15,0.475 ; -0.15,0.525 0.15,0.525 ; -0.15,0.575 0.15,0.575 ; -0.125,-0.375 0.125,-0.375 ; -0.125,0.375 0.125,0.375 ; 0.15,-0.62 0.5,-0.62 ; 0.15,0.62 0.5,0.62 ; 0.5,-0.575 0.8,-0.575 ; 0.5,-0.525 0.8,-0.525 ; 0.5,-0.475 0.8,-0.475 ; 0.5,0.475 0.8,0.475 ; 0.5,0.525 0.8,0.525 ; 0.5,0.575 0.8,0.575 ; 0.525,-0.375 0.775,-0.375 ; 0.525,0.375 0.775,0.375 ; 0.75,-0.1 0.75,0.1 ; 0.8,-0.62 0.895,-0.62 ccw(c0.895,-0.52) 0.995,-0.52 0.995,-0.15 ; 0.8,0.62 0.895,0.62 cw(c0.895,0.52) 0.995,0.52 0.995,0.15 ; 0.85,-0.15 0.85,0.15 ; 0.9,-0.15 0.9,0.15 ; 0.95,-0.15 0.95,0.15 ; -0.8,-0.425 cw(c-0.7,-0.425) -0.7,-0.325 -0.6,-0.325 cw(c-0.6,-0.425) -0.5,-0.425 ; -0.8,-0.425 -0.5,-0.425 ; -0.8,-0.425 -0.8,-0.625 -0.5,-0.625 -0.5,-0.425 ; -0.8,-0.15 ccw(c-0.8,-0.05) -0.7,-0.05 -0.7,0.05 ccw(c-0.8,0.05) -0.8,0.15 ; -0.8,-0.15 -0.8,0.15 ; -0.8,-0.15 -1,-0.15 -1,0.15 -0.8,0.15 ; -0.8,0.425 ccw(c-0.7,0.425) -0.7,0.325 -0.6,0.325 ccw(c-0.6,0.425) -0.5,0.425 ; -0.8,0.425 -0.5,0.425 ; -0.8,0.425 -0.8,0.625 -0.5,0.625 -0.5,0.425 ; -0.15,-0.425 cw(c-0.05,-0.425) -0.05,-0.325 0.05,-0.325 cw(c0.05,-0.425) 0.15,-0.425 ; -0.15,-0.425 0.15,-0.425 ; -0.15,-0.425 -0.15,-0.625 0.15,-0.625 0.15,-0.425 ; -0.15,0.425 ccw(c-0.05,0.425) -0.05,0.325 0.05,0.325 ccw(c0.05,0.425) 0.15,0.425 ; -0.15,0.425 0.15,0.425 ; -0.15,0.425 -0.15,0.625 0.15,0.625 0.15,0.425 ; 0.5,-0.425 cw(c0.6,-0.425) 0.6,-0.325 0.7,-0.325 cw(c0.7,-0.425) 0.8,-0.425 ; 0.5,-0.425 0.8,-0.425 ; 0.5,-0.425 0.5,-0.625 0.8,-0.625 0.8,-0.425 ; 0.5,0.425 ccw(c0.6,0.425) 0.6,0.325 0.7,0.325 ccw(c0.7,0.425) 0.8,0.425 ; 0.5,0.425 0.8,0.425 ; 0.5,0.425 0.5,0.625 0.8,0.625 0.8,0.425 ; 0.8,-0.15 cw(c0.8,-0.05) 0.7,-0.05 0.7,0.05 cw(c0.8,0.05) 0.8,0.15 ; 0.8,-0.15 0.8,0.15 ; 0.8,-0.15 1,-0.15 1,0.15 0.8,0.15
  text ".Designator" at -2.704,1.229 h1.2
3D body "GE0805C-2.x_t": height 0.95, standoff 0, extent -1,-0.625 1,0.625

## GE0805C-9_Update [mm] "Mini-Circuits GE0805C-9 Case Style"
height 0.95
pads (6):
  rect 0.35x0.34 smd mask+0.065: 1(-0.65,-0.57) 3(0.65,-0.57)
  rect 0.35x1 smd mask+0.06: 2(0,-0.9) 4(0.65,0.9) 5(0,0.9) 6(-0.65,0.9)
Top Layer:
  pour cut-out: -0.475,-0.2 -0.22,-0.2 -0.22,-0.94 -0.475,-0.94
  pour cut-out: 0.475,-0.2 0.22,-0.2 0.22,-0.94 0.475,-0.94
Top Overlay:
  circle w0.22: c-0.66,-1.29 r0.1
Top Solder:
  rectangle: -1.09,-0.805 -0.89,-0.335
  region: 1.09,-0.335 0.89,-0.335 0.89,-0.805 1.09,-0.805
Top Assembly:
  lines w0.05: -0.825,-0.615 -0.9,-0.615 cw(c-0.9,-0.515) -1,-0.515 -1,0.515 cw(c-0.9,0.515) -0.9,0.615 -0.825,0.615 ; -0.825,-0.575 -0.475,-0.575 ; -0.825,-0.525 -0.475,-0.525 ; -0.825,0.525 -0.475,0.525 ; -0.825,0.575 -0.475,0.575 ; -0.805,-0.425 -0.495,-0.425 ; -0.805,0.425 -0.495,0.425 ; -0.775,-0.375 -0.525,-0.375 ; -0.775,0.375 -0.525,0.375 ; -0.75,-0.2 -0.75,0.2 ; -0.7,-0.2 -0.7,0.2 ; -0.65,-0.2 -0.65,0.2 ; -0.6,-0.2 -0.6,0.2 ; -0.55,-0.2 -0.55,0.2 ; -0.5,-0.2 -0.5,0.2 ; -0.475,-0.615 -0.175,-0.615 ; -0.475,0.615 -0.175,0.615 ; -0.45,-0.2 -0.45,0.2 ; -0.4,-0.2 -0.4,0.2 ; -0.35,-0.2 -0.35,0.2 ; -0.3,-0.2 -0.3,0.2 ; -0.25,-0.2 -0.25,0.2 ; -0.175,-0.575 0.175,-0.575 ; -0.175,-0.525 0.175,-0.525 ; -0.175,0.525 0.175,0.525 ; -0.175,0.575 0.175,0.575 ; -0.155,-0.425 0.155,-0.425 ; -0.155,0.425 0.155,0.425 ; -0.125,-0.375 0.125,-0.375 ; -0.125,0.375 0.125,0.375 ; 0.175,-0.615 0.475,-0.615 ; 0.175,0.615 0.475,0.615 ; 0.475,-0.575 0.825,-0.575 ; 0.475,-0.525 0.825,-0.525 ; 0.475,0.525 0.825,0.525 ; 0.475,0.575 0.825,0.575 ; 0.495,-0.425 0.805,-0.425 ; 0.495,0.425 0.805,0.425 ; 0.525,-0.375 0.775,-0.375 ; 0.525,0.375 0.775,0.375 ; 0.825,-0.615 0.9,-0.615 ccw(c0.9,-0.515) 1,-0.515 1,0.515 ccw(c0.9,0.515) 0.9,0.615 0.825,0.615 ; -0.825,-0.475 cw(c-0.675,-0.475) -0.675,-0.325 -0.625,-0.325 cw(c-0.625,-0.475) -0.475,-0.475 ; -0.825,-0.475 -0.825,-0.625 -0.475,-0.625 -0.475,-0.475 ; -0.825,-0.475 -0.475,-0.475 ; -0.825,0.475 ccw(c-0.675,0.475) -0.675,0.325 -0.625,0.325 ccw(c-0.625,0.475) -0.475,0.475 ; -0.825,0.475 -0.825,0.625 -0.475,0.625 -0.475,0.475 ; -0.825,0.475 -0.475,0.475 ; -0.175,-0.475 cw(c-0.025,-0.475) -0.025,-0.325 0.025,-0.325 cw(c0.025,-0.475) 0.175,-0.475 ; -0.175,-0.475 -0.175,-0.625 0.175,-0.625 0.175,-0.475 ; -0.175,-0.475 0.175,-0.475 ; -0.175,0.475 ccw(c-0.025,0.475) -0.025,0.325 0.025,0.325 ccw(c0.025,0.475) 0.175,0.475 ; -0.175,0.475 -0.175,0.625 0.175,0.625 0.175,0.475 ; -0.175,0.475 0.175,0.475 ; 0.475,-0.475 cw(c0.625,-0.475) 0.625,-0.325 0.675,-0.325 cw(c0.675,-0.475) 0.825,-0.475 ; 0.475,-0.475 0.475,-0.625 0.825,-0.625 0.825,-0.475 ; 0.475,-0.475 0.825,-0.475 ; 0.475,0.475 ccw(c0.625,0.475) 0.625,0.325 0.675,0.325 ccw(c0.675,0.475) 0.825,0.475 ; 0.475,0.475 0.475,0.625 0.825,0.625 0.825,0.475 ; 0.475,0.475 0.825,0.475 ; -0.8,-0.2 -0.2,-0.2 -0.2,0.2 -0.8,0.2 -0.8,-0.2
  text ".Designator" at -2.704,0.979 h1.2
3D body "GE0805C-9.x_t": height 0.95, standoff 0, extent -1,-0.625 1,0.625

## JC0603C_1 [mm] "Mini-Circuits JC0603C Case Style"
height 0.6
pads (6):
  rect 0.25x0.34 smd mask+0.05: 1(-0.5,-0.355) 3(0.5,-0.355)
  rect 0.25x0.55 smd mask+0.05: 2(0,-0.4) 4(0.5,0.4) 5(0,0.4) 6(-0.5,0.4)
Top Layer:
  pour cut-out: 0.125,-0.726 0.375,-0.726 0.375,0.014 0.125,0.014
  pour cut-out: -0.125,-0.726 -0.375,-0.726 -0.375,0.014 -0.125,0.014
Top Overlay:
  circle w0.3: c-1.2,-0.9 r0.1
  lines w0.2: -1,-0.4 -1,0.4 ; 1,-0.4 1,0.4
Top Assembly:
  lines w0.05: -0.55,-0.4 -0.55,-0.275 ; -0.55,0.275 -0.55,0.4 ; -0.5,-0.4 -0.5,-0.25 ; -0.5,0.25 -0.5,0.4 ; -0.45,-0.4 -0.45,-0.275 ; -0.45,0.275 -0.45,0.4 ; -0.05,-0.4 -0.05,-0.275 ; -0.05,0.275 -0.05,0.4 ; 0,-0.4 0,-0.25 ; 0,0.25 0,0.4 ; 0.05,-0.4 0.05,-0.275 ; 0.05,0.275 0.05,0.4 ; 0.4,0.349 0.4,0.4 ; 0.45,-0.4 0.45,-0.275 ; 0.45,0.274 0.45,0.399 ; 0.5,-0.4 0.5,-0.25 ; 0.5,0.249 0.5,0.4 ; 0.55,-0.4 0.55,-0.275 ; 0.55,0.274 0.55,0.399 ; 0.6,0.349 0.6,0.4 ; -0.6,-0.4 -0.6,-0.35 ; -0.6,-0.4 -0.4,-0.4 ; -0.6,-0.4 -0.75,-0.4 cw(c-0.75,-0.35) -0.8,-0.35 -0.8,0.35 cw(c-0.75,0.35) -0.75,0.4 -0.6,0.4 ; -0.6,-0.4 -0.6,-0.35 ; -0.6,-0.35 cw(c-0.5,-0.35) -0.4,-0.35 ; -0.6,0.4 -0.6,0.35 ccw(c-0.5,0.35) -0.4,0.35 -0.4,0.4 ; -0.6,0.4 -0.4,0.4 ; -0.4,-0.4 -0.4,-0.35 ; -0.4,-0.4 -0.1,-0.4 ; -0.4,-0.4 -0.4,-0.35 ; -0.4,0.4 -0.1,0.4 ; -0.1,-0.4 -0.1,-0.35 ; -0.1,-0.4 0.1,-0.4 ; -0.1,-0.4 -0.1,-0.35 ; -0.1,-0.35 cw(c0,-0.35) 0.1,-0.35 ; -0.1,0.35 ccw(c0,0.35) 0.1,0.35 ; -0.1,0.35 -0.1,0.4 ; -0.1,0.35 -0.1,0.4 ; -0.1,0.4 0.1,0.4 ; 0.1,-0.4 0.1,-0.35 ; 0.1,-0.4 0.4,-0.4 ; 0.1,-0.4 0.1,-0.35 ; 0.1,0.35 0.1,0.4 ; 0.1,0.35 0.1,0.4 ; 0.1,0.4 0.4,0.4 ; 0.4,-0.4 0.4,-0.35 ; 0.4,-0.4 0.6,-0.4 ; 0.4,-0.4 0.4,-0.35 ; 0.4,-0.35 cw(c0.5,-0.35) 0.6,-0.35 ; 0.4,0.4 0.6,0.4 ; 0.4,0.4 0.4,0.35 ccw(c0.5,0.35) 0.6,0.35 0.6,0.4 ; 0.6,-0.4 0.6,-0.35 ; 0.6,-0.4 0.75,-0.4 ccw(c0.75,-0.35) 0.8,-0.35 0.8,0.35 ccw(c0.75,0.35) 0.75,0.4 0.6,0.4 ; 0.6,-0.4 0.6,-0.35 ; -0.6,-0.075 -0.4,-0.075 -0.4,0.075 -0.6,0.075 -0.6,-0.075
  text ".Designator" at -2.704,0.979 h1.2
Top Courtyard:
  lines w0.025: -1.15,-0.6 -1.15,0.6 -0.9,0.6 -0.9,0.95 0.9,0.95 0.9,0.6 1.15,0.6 1.15,-0.6 0.9,-0.6 0.9,-0.95 -0.9,-0.95 -0.9,-0.6 -1.15,-0.6
3D body "JC0603C.x_t": height 0.61, standoff 0, extent -0.8,-0.4 0.8,0.4

## JV1210C-13_update 2 [mm] "Chip FILTER"
height 1
pads (2):
  rect 0.25x0.2 smd: 1(-1.475,0) 2(1.475,0)
Top Layer:
  pour cut-out: 1.6,0 1,0 1,-0.255 1,-0.285 1.023,-0.34 1.065,-0.382 1.12,-0.405 1.15,-0.405 1.6,-0.405
  pour cut-out: 1.6,0 1,0 1,0.255 1,0.285 1.023,0.34 1.065,0.382 1.12,0.405 1.15,0.405 1.6,0.405
  pour cut-out: -1.6,0 -1,0 -1,-0.255 -1,-0.285 -1.023,-0.34 -1.065,-0.382 -1.12,-0.405 -1.15,-0.405 -1.6,-0.405
  pour cut-out: -1.6,0 -1,0 -1,0.255 -1,0.285 -1.023,0.34 -1.065,0.382 -1.12,0.405 -1.15,0.405 -1.6,0.405
  region: -1.6,0 -1.6,0.17 -1.8,0.17 -1.8,0
  region: -1.6,0 -1.6,-0.17 -1.8,-0.17 -1.8,0
  region: 1.6,0 1.6,0.17 1.8,0.17 1.8,0
  region: 1.6,0 1.6,-0.17 1.8,-0.17 1.8,0
  pour cut-out: -1.6,0.37 -1.6,0.3 -1.8,0.3 -1.8,0.37
  pour cut-out: -1.6,-0.37 -1.6,-0.3 -1.8,-0.3 -1.8,-0.37
  pour cut-out: 1.6,0.37 1.6,0.3 1.8,0.3 1.8,0.37
  pour cut-out: 1.6,-0.37 1.6,-0.3 1.8,-0.3 1.8,-0.37
  region: -1.475,0.1 -1.64,0.1 -1.64,-0.1 -1.475,-0.1
  region: 1.475,0.1 1.64,0.1 1.64,-0.1 1.475,-0.1
Top Overlay:
  circle w0.22: c-1.5,1.7 r0.1
  lines w0.2: -0.5,-1.5 0.5,-1.5 ; -0.5,1.5 0.5,1.5
Top Paste:
  region: 1.7,0.12 1.55,0.12 1.55,-0.12 1.7,-0.12
  region: 1.6,-0.05 1.35,-0.05 1.35,-0.12 1.6,-0.12
  region: 1.6,0.12 1.35,0.12 1.35,0.05 1.6,0.05
  rectangle: -1.7,-0.12 -1.55,0.12
  rectangle: -1.6,-0.12 -1.35,-0.05
  rectangle: -1.6,0.05 -1.35,0.12
  rectangle: -0.45,-1.2 0.45,-0.55
  region: 1.55,-0.55 0.65,-0.55 0.65,-1.2 1.55,-1.2
  rectangle: -1.55,-1.2 -0.65,-0.55
  rectangle: -0.9,-0.35 -0.1,0.35
  region: 0.9,0.35 0.1,0.35 0.1,-0.35 0.9,-0.35
  rectangle: -0.45,0.55 0.45,1.2
  region: 1.55,1.2 0.65,1.2 0.65,0.55 1.55,0.55
  rectangle: -1.55,0.55 -0.65,1.2
Top Solder:
  region: -1.705,1.35 -1.705,-1.35 1.705,-1.35 1.705,1.35
Top Assembly:
  lines w0.05: -1.6,-1.25 1.6,-1.25 1.6,1.25 -1.6,1.25 -1.6,-1.25 ; -1.35,-0.25 -1.35,0.25 -0.6,0.25 -0.6,-0.25 -1.35,-0.25
  text ".Designator" at -5.228,-0.539 h1.5
3D body "JV1210C-13.x_t": height 0.77, standoff 0, extent -1.6,-1.25 1.6,1.25

## LFCSP-24(CP-24-16) [mm] "QFN, 24-Leads, Body 4x4mm, Pitch 0.50mm, Thermal Pad 2.70x2.70mm. Compliant to JEDEC standards MO-220-VGGD-6"
height 0.85
pads (25):
  rect 0.5x0.25 smd mask+0.05: 1(-1.805,1.25) 2(-1.805,0.75) 3(-1.805,0.25) 4(-1.805,-0.25) 5(-1.805,-0.75) 6(-1.805,-1.25) 13(1.805,-1.25) 14(1.805,-0.75) 15(1.805,-0.25) 16(1.805,0.25) 17(1.805,0.75) 18(1.805,1.25)
  rect 0.25x0.5 smd mask+0.05: 7(-1.25,-1.805) 8(-0.75,-1.805) 9(-0.25,-1.805) 10(0.25,-1.805) 11(0.75,-1.805) 12(1.25,-1.805) 19(1.25,1.805) 20(0.75,1.805) 21(0.25,1.805) 22(-0.25,1.805) 23(-0.75,1.805) 24(-1.25,1.805)
  rect 2.7x2.7 smd paste-5 mask+0.03: EP(0,0)
Top Overlay:
  circle w0.25: c-2.65,2.05 r0.1
  lines w0.2: -2.14,-1.686 -2.14,-2.141 -1.695,-2.141 ; -2.14,1.686 -2.14,2.141 -1.695,2.141 ; 1.695,-2.141 2.14,-2.141 2.14,-1.686 ; 1.695,2.141 2.14,2.141 2.14,1.686
Top Paste:
  rectangle: 0.6,-1.21 1.2,-0.61
  rectangle: 0.6,-0.31 1.2,0.29
  rectangle: 0.6,0.59 1.2,1.19
  rectangle: -0.3,0.59 0.3,1.19
  rectangle: -1.2,-1.21 -0.6,-0.61
  rectangle: -0.3,-1.21 0.3,-0.61
  rectangle: -1.2,-0.31 -0.6,0.29
  rectangle: -0.3,-0.31 0.3,0.29
  rectangle: -1.2,0.59 -0.6,1.19
  region: -2.05,-0.875 -2.05,-0.625 -2.104,-0.625 -2.104,-0.875
  region: -2.05,-0.375 -2.05,-0.125 -2.104,-0.125 -2.104,-0.375
  region: -2.05,0.125 -2.05,0.375 -2.104,0.375 -2.104,0.125
  region: -2.05,0.625 -2.05,0.875 -2.104,0.875 -2.104,0.625
  region: -2.05,1.125 -2.05,1.375 -2.104,1.375 -2.104,1.125
  region: -1.125,-2.05 -1.375,-2.05 -1.375,-2.104 -1.125,-2.104
  region: -0.625,-2.05 -0.875,-2.05 -0.875,-2.104 -0.625,-2.104
  region: -0.125,-2.05 -0.375,-2.05 -0.375,-2.104 -0.125,-2.104
  region: 0.375,-2.05 0.125,-2.05 0.125,-2.104 0.375,-2.104
  region: 1.375,-2.05 1.125,-2.05 1.125,-2.104 1.375,-2.104
  region: 2.05,-1.125 2.05,-1.375 2.104,-1.375 2.104,-1.125
  region: 2.05,-0.625 2.05,-0.875 2.104,-0.875 2.104,-0.625
  region: 2.05,-0.125 2.05,-0.375 2.104,-0.375 2.104,-0.125
  region: 2.05,0.375 2.05,0.125 2.104,0.125 2.104,0.375
  region: 2.05,0.875 2.05,0.625 2.104,0.625 2.104,0.875
  region: 2.05,1.375 2.05,1.125 2.104,1.125 2.104,1.375
  region: 1.125,2.05 1.375,2.05 1.375,2.104 1.125,2.104
  region: 0.625,2.05 0.875,2.05 0.875,2.104 0.625,2.104
  region: 0.125,2.05 0.375,2.05 0.375,2.104 0.125,2.104
  region: -0.375,2.05 -0.125,2.05 -0.125,2.104 -0.375,2.104
  region: -0.875,2.05 -0.625,2.05 -0.625,2.104 -0.875,2.104
  region: -1.375,2.05 -1.125,2.05 -1.125,2.104 -1.375,2.104
  region: 0.875,-2.05 0.625,-2.05 0.625,-2.104 0.875,-2.104
  region: -2.05,-1.375 -2.05,-1.125 -2.104,-1.125 -2.104,-1.375
Top Solder:
  region: 1.425,2.104 1.075,2.104 1.075,2.15 1.425,2.15
  region: 2.104,-1.425 2.104,-1.075 2.15,-1.075 2.15,-1.425
  region: -2.104,-1.425 -2.104,-1.075 -2.15,-1.075 -2.15,-1.425
  region: -2.104,-0.925 -2.104,-0.575 -2.15,-0.575 -2.15,-0.925
  region: -2.104,-0.425 -2.104,-0.075 -2.15,-0.075 -2.15,-0.425
  region: -2.104,0.075 -2.104,0.425 -2.15,0.425 -2.15,0.075
  region: -2.104,0.575 -2.104,0.925 -2.15,0.925 -2.15,0.575
  region: -2.104,1.075 -2.104,1.425 -2.15,1.425 -2.15,1.075
  region: 1.425,-2.104 1.075,-2.104 1.075,-2.15 1.425,-2.15
  region: 0.925,-2.104 0.575,-2.104 0.575,-2.15 0.925,-2.15
  region: 0.425,-2.104 0.075,-2.104 0.075,-2.15 0.425,-2.15
  region: -0.075,-2.104 -0.425,-2.104 -0.425,-2.15 -0.075,-2.15
  region: -0.575,-2.104 -0.925,-2.104 -0.925,-2.15 -0.575,-2.15
  region: -1.075,-2.104 -1.425,-2.104 -1.425,-2.15 -1.075,-2.15
  region: 2.104,1.425 2.104,1.075 2.15,1.075 2.15,1.425
  region: 2.104,0.925 2.104,0.575 2.15,0.575 2.15,0.925
  region: 2.104,0.425 2.104,0.075 2.15,0.075 2.15,0.425
  region: 2.104,-0.075 2.104,-0.425 2.15,-0.425 2.15,-0.075
  region: 2.104,-0.575 2.104,-0.925 2.15,-0.925 2.15,-0.575
  region: -1.425,2.104 -1.075,2.104 -1.075,2.15 -1.425,2.15
  region: -0.925,2.104 -0.575,2.104 -0.575,2.15 -0.925,2.15
  region: -0.425,2.104 -0.075,2.104 -0.075,2.15 -0.425,2.15
  region: 0.075,2.104 0.425,2.104 0.425,2.15 0.075,2.15
  region: 0.575,2.104 0.925,2.104 0.925,2.15 0.575,2.15
Top Assembly:
  circle w0.05: c-1.5,1.5 r0.25
  lines w0.05: -2,-1.375 -2.02,-1.375 -2.02,-1.125 -2,-1.125 ; -2,-0.875 -2.02,-0.875 -2.02,-0.625 -2,-0.625 ; -2,-0.375 -2.02,-0.375 -2.02,-0.125 -2,-0.125 ; -2,0.125 -2.02,0.125 -2.02,0.375 -2,0.375 ; -2,0.625 -2.02,0.625 -2.02,0.875 -2,0.875 ; -2,1.125 -2.02,1.125 -2.02,1.375 -2,1.375 ; -1.375,-2 -1.375,-2.02 -1.125,-2.02 -1.125,-2 ; -1.375,2 -1.375,2.02 -1.125,2.02 -1.125,2 ; -0.875,-2 -0.875,-2.02 -0.625,-2.02 -0.625,-2 ; -0.875,2 -0.875,2.02 -0.625,2.02 -0.625,2 ; -0.375,-2 -0.375,-2.02 -0.125,-2.02 -0.125,-2 ; -0.375,2 -0.375,2.02 -0.125,2.02 -0.125,2 ; 0.125,-2 0.125,-2.02 0.375,-2.02 0.375,-2 ; 0.125,2 0.125,2.02 0.375,2.02 0.375,2 ; 0.625,-2 0.625,-2.02 0.875,-2.02 0.875,-2 ; 0.625,2 0.625,2.02 0.875,2.02 0.875,2 ; 1.125,-2 1.125,-2.02 1.375,-2.02 1.375,-2 ; 1.125,2 1.125,2.02 1.375,2.02 1.375,2 ; 2,-1.375 2.02,-1.375 2.02,-1.125 2,-1.125 ; 2,-0.875 2.02,-0.875 2.02,-0.625 2,-0.625 ; 2,-0.375 2.02,-0.375 2.02,-0.125 2,-0.125 ; 2,0.125 2.02,0.125 2.02,0.375 2,0.375 ; 2,0.625 2.02,0.625 2.02,0.875 2,0.875 ; 2,1.125 2.02,1.125 2.02,1.375 2,1.375 ; -2,-2 2,-2 2,2 -2,2 -2,-2
  text ".Designator" at -4.511,-0.453 h2
3D body "CP-24-16(LFCSP24).x_t": height 0.9, standoff 0, extent -2.02,-2.02 2.02,2.02